# Altium schematic symbol library SN65HVDI.SchLib: 2 symbols
Pins are listed as number, name and electrical type; pins without a type are passive.

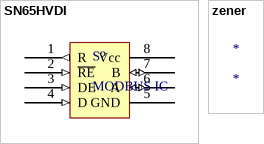
[diagram p0: symbols SN65HVDI to zener]

## SN65HVDI
designator S?, comment MODBUS IC
footprint SOIC127P1030X175-8N (SOIC, 8-Leads, Body 4.90x3.90mm, Pitch 1.27mm, IPC Medium Density)
pins: 1 R (out) "Receive data output", 2 ~{RE} (in) "Active low receiver enbable", 3 DE (in) "Active high driver enable", 4 D (in) "Driver data input", 5 GND (power) "LOcal device ground", 6 A (io) "Driver output or receiver input", 7 B (io) "DRiver output or receiver input", 8 Vcc (power) "3 V to 3.6 V"

## zener
designator *